# Altium schematic symbol library symbols.SchLib: 27 symbols
Pins are listed as number, name and electrical type; pins without a type are passive.

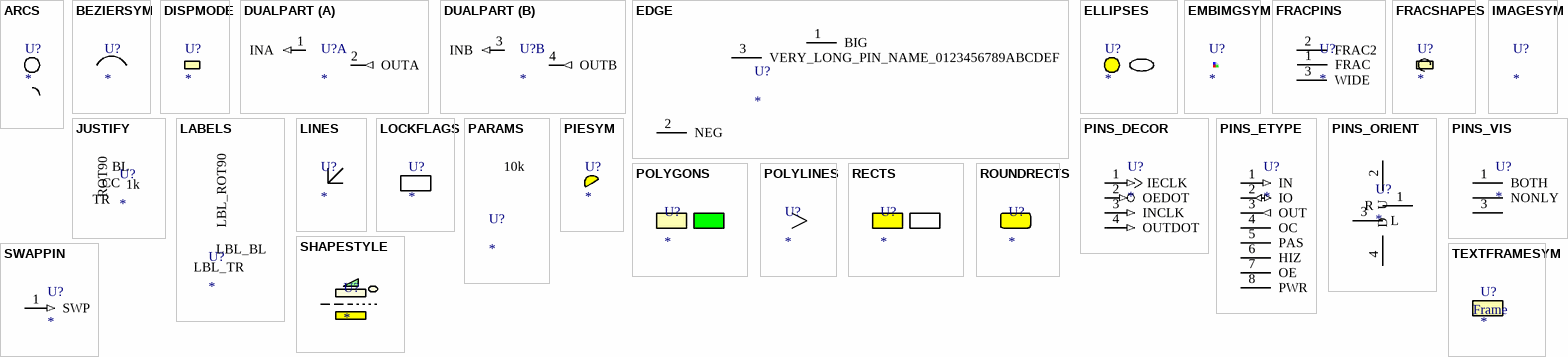
[diagram p0: symbols ARCS to TEXTFRAMESYM]

## ARCS
designator U?
Arcs: full circle + quarter

## BEZIERSYM
designator U?
Bezier curve

## DISPMODE
designator U?
Alternate display mode
1 alternate drawing of the same symbol

## DUALPART
designator U?
Dual-part test symbol
part A pins: 1 INA (in), 2 OUTA (out)
part B pins: 3 INB (in), 4 OUTB (out)

## EDGE
designator U?
Boundary-case pins
pins: 1 BIG, 2 NEG, 3 VERY_LONG_PIN_NAME_0123456789ABCDEF

## ELLIPSES
designator U?
Ellipses: circle + ellipse

## EMBIMGSYM
designator U?
Embedded image

## FRACPINS
designator U?
Off-grid pins + symbol line width
pins: 1 FRAC, 2 FRAC2, 3 WIDE

## FRACSHAPES
designator U?
Off-grid shapes

## IMAGESYM
designator U?
Linked image

## JUSTIFY
designator U?  value 1k
Label / parameter justification + rotation; Tol: 5%
text: BL; CC; TR; ROT90

## LABELS
designator U?
Text labels: justify + rotate
text: LBL_ROT90; LBL_BL; LBL_TR

## LINES
designator U?
Lines: horizontal/vertical/diagonal

## LOCKFLAGS
designator U?
Graphically locked / disabled / dimmed shape

## PARAMS
designator U?  value 10k
Component parameters: visible + hidden

## PIESYM
designator U?
Filled pie sector

## PINS_DECOR
designator U?
Pin decoration symbols
pins: 1 IECLK (in), 2 OEDOT (in), 3 INCLK (in), 4 OUTDOT (in)

## PINS_ETYPE
designator U?
One pin per electrical type
pins: 1 IN (in), 2 IO (io), 3 OUT (out), 4 OC (oc), 5 PAS, 6 HIZ (hiz), 7 OE (oe), 8 PWR (power)

## PINS_ORIENT
designator U?
One pin per orientation
pins: 1 R, 2 U, 3 L, 4 D

## PINS_VIS
designator U?
Pin visibility combinations
pins: 1 BOTH, 2 NONLY, 3 DONLY, 4 HIDE hidden

## POLYGONS
designator U?
Filled polygon boxes

## POLYLINES
designator U?
Open 3-point polyline

## RECTS
designator U?
Rectangles: filled + unfilled

## ROUNDRECTS
designator U?
Rounded rectangle

## SHAPESTYLE
designator U?
Non-default line style + transparent fills

## SWAPPIN
designator U?
Pin swap ids + default value
pins: 1 SWP (in)

## TEXTFRAMESYM
designator U?
Text frame
text: Frame text